# Altium schematic symbol library SW-PB.SchLib: 1 symbol
Pins are listed as number, name and electrical type; pins without a type are passive.

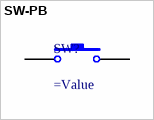
[diagram p0: symbol SW-PB]

## SW-PB
designator SW?
=Description
pins: 1, 2